# Altium footprint library ICs.PcbLib: 30 footprints (part 1 of 2)
Each footprint in its own frame and in the unit in brackets; x right, y up, seen from the top. Pads: shape width x height; smd on the part's side, far side on the other; paste and mask are expansions set on the pad; w line width, h text height; cw(c..) or ccw(c..) is an arc to the next point about the centre after c.
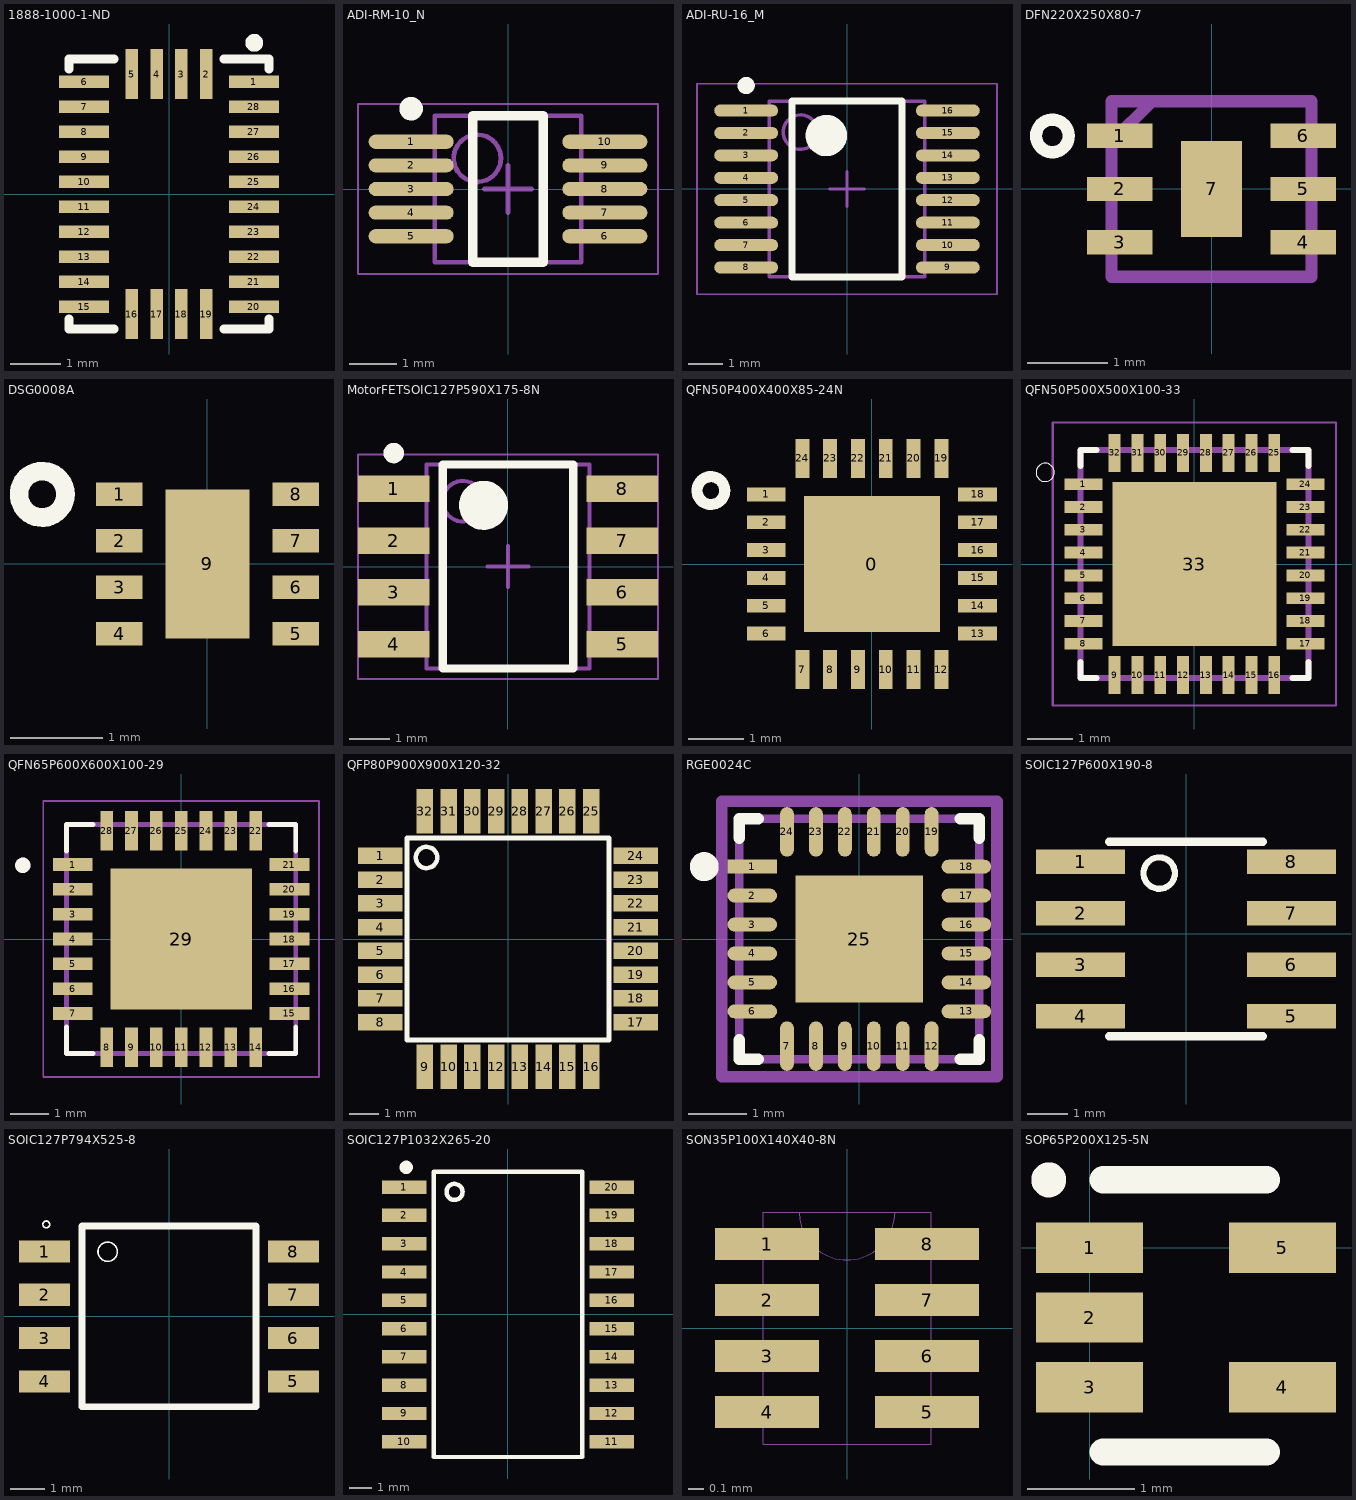
[diagram p0: the footprints below, top view; thin cyan lines are the x and y axes]

## 1888-1000-1-ND [mm]
height 1.2
pads (28):
  rect 1x0.25 smd: 1(1.7,2.25) 6(-1.7,2.25) 7(-1.7,1.75) 8(-1.7,1.25) 9(-1.7,0.75) 10(-1.7,0.25) 11(-1.7,-0.25) 12(-1.7,-0.75) 13(-1.7,-1.25) 14(-1.7,-1.75) 15(-1.7,-2.25) 20(1.7,-2.25) 21(1.7,-1.75) 22(1.7,-1.25) 23(1.7,-0.75) 24(1.7,-0.25) 25(1.7,0.25) 26(1.7,0.75) 27(1.7,1.25) 28(1.7,1.75)
  rect 0.25x1 smd: 2(0.75,2.4) 3(0.25,2.4) 4(-0.25,2.4) 5(-0.75,2.4) 16(-0.75,-2.4) 17(-0.25,-2.4) 18(0.25,-2.4) 19(0.75,-2.4)
Top Overlay:
  circle w0.203: c1.706,3.025 r0.076
  lines w0.178: -2,-2.5 -2,-2.7 -1.1,-2.7 ; -2,2.5 -2,2.7 -1.1,2.7 ; 1.1,-2.7 2,-2.7 2,-2.5 ; 1.1,2.7 2,2.7 2,2.5
Top Paste:
  region: -1.902,2.375 -1.2,2.375 -1.2,2.127 -1.902,2.127
  region: -1.901,1.375 -1.2,1.375 -1.2,1.126 -1.901,1.126
  region: -1.903,0.375 -1.2,0.375 -1.2,0.125 -1.903,0.125
  region: -1.904,-0.625 -1.2,-0.625 -1.2,-0.877 -1.904,-0.877
  region: -1.902,-1.625 -1.2,-1.625 -1.2,-1.877 -1.902,-1.877
  region: 0.623,-2.602 0.623,-1.902 0.877,-1.902 0.877,-2.602
  region: -0.377,-2.602 -0.377,-1.901 -0.124,-1.901 -0.124,-2.602
  region: 1.9,-2.379 1.202,-2.379 1.202,-2.125 1.9,-2.125
  region: 1.9,-1.375 1.2,-1.375 1.2,-1.125 1.9,-1.125
  region: 1.9,-0.375 1.201,-0.375 1.201,-0.125 1.9,-0.125
  region: 1.9,0.626 1.202,0.626 1.202,0.875 1.9,0.875
  region: 1.9,1.628 1.202,1.628 1.202,1.875 1.9,1.875
  region: 0.873,2.602 0.873,1.902 0.627,1.902 0.627,2.602
  region: -0.126,2.601 -0.126,1.9 -0.375,1.9 -0.375,2.601
  region: 0.374,2.601 0.374,1.9 0.125,1.9 0.125,2.601
  region: -0.625,2.6 -0.625,1.9 -0.875,1.9 -0.875,2.6
  region: -1.902,1.875 -1.2,1.875 -1.2,1.627 -1.902,1.627
  region: -1.902,0.875 -1.2,0.875 -1.2,0.626 -1.902,0.626
  region: -1.903,-0.125 -1.2,-0.125 -1.2,-0.376 -1.903,-0.376
  region: -1.902,-1.125 -1.2,-1.125 -1.2,-1.376 -1.902,-1.376
  region: -1.901,-2.125 -1.2,-2.125 -1.2,-2.377 -1.901,-2.377
  region: -0.876,-2.601 -0.876,-1.9 -0.625,-1.9 -0.625,-2.601
  region: 0.125,-2.6 0.125,-1.9 0.375,-1.9 0.375,-2.6
  region: 1.9,-1.876 1.201,-1.876 1.201,-1.625 1.9,-1.625
  region: 1.9,-0.875 1.2,-0.875 1.2,-0.625 1.9,-0.625
  region: 1.9,0.125 1.201,0.125 1.201,0.375 1.9,0.375
  region: 1.9,1.125 1.2,1.125 1.2,1.375 1.9,1.375
  region: 1.9,2.125 1.2,2.125 1.2,2.375 1.9,2.375

## ADI-RM-10_N [mm] "SOP, 10-Leads, Body 3x3mm, Pitch 0.5mm, IPC Medium Density"
height 1.1
pads (10):
  oval 1.8x0.3 smd: 1(-2.05,1) 2(-2.05,0.5) 3(-2.05,0) 4(-2.05,-0.5) 5(-2.05,-1) 6(2.05,-1) 7(2.05,-0.5) 8(2.05,0) 9(2.05,0.5) 10(2.05,1)
Top Overlay:
  circle w0.25: c-2.05,1.7 r0.125
  lines w0.2: -0.75,-1.55 -0.75,1.55 0.75,1.55 0.75,-1.55 -0.75,-1.55
Mechanical 13:
  circle w0.1: c-0.65,0.65 r0.5
  lines w0.1: -1.55,-1.55 -1.55,1.55 1.55,1.55 1.55,-1.55 -1.55,-1.55
Mechanical 15:
  lines w0.05: -3.175,-1.8 -3.175,1.8 3.175,1.8 3.175,-1.8 -3.175,-1.8
  lines w0.1: -0.5,0 0.5,0 ; 0,-0.5 0,0.5
3D body: height 1.1, standoff 0.05, extent -1.55,-1.55 1.55,1.55

## ADI-RU-16_M [mm] "SOP, 16-Leads, Body 5x4.4mm, Pitch 0.65mm, IPC Low Density"
height 1.2
pads (16):
  oval 1.85x0.35 smd: 1(-2.925,2.275) 2(-2.925,1.625) 3(-2.925,0.975) 4(-2.925,0.325) 5(-2.925,-0.325) 6(-2.925,-0.975) 7(-2.925,-1.625) 8(-2.925,-2.275) 9(2.925,-2.275) 10(2.925,-1.625) 11(2.925,-0.975) 12(2.925,-0.325) 13(2.925,0.325) 14(2.925,0.975) 15(2.925,1.625) 16(2.925,2.275)
Top Overlay:
  circle w0.25: c-2.925,3 r0.125
  circle w0.6: c-0.6,1.55 r0.3
  lines w0.2: -1.6,-2.55 -1.6,2.55 1.6,2.55 1.6,-2.55 -1.6,-2.55
Mechanical 13:
  circle w0.1: c-1.35,1.65 r0.5
  lines w0.1: -2.25,-2.55 -2.25,2.55 2.25,2.55 2.25,-2.55 -2.25,-2.55
Mechanical 15:
  lines w0.05: -4.35,-3.05 -4.35,3.05 4.35,3.05 4.35,-3.05 -4.35,-3.05
  lines w0.1: -0.5,0 0.5,0 ; 0,-0.5 0,0.5
3D body: height 1.2, standoff 0.05, extent -2.25,-2.55 2.25,2.55

## DFN220X250X80-7 [mil] "DFN + Body Width X Body Length X Height - #Pins"
height 31.5
pads (7):
  rect 32x12 smd: 1(-45,26) 2(-45,0) 3(-45,-26) 4(45,-26) 5(45,0) 6(45,26)
  rect 30x47 smd: 7(0,0)
Top Overlay:
  lines w0: -73.94,19.03 cw(c-77.64,26) -73.94,32.97
  lines w6: -86,26 ccw(c-78,26) -70,26 ccw(c-78,26) -86,26
Mechanical 1:
  lines w6: -49,23 -29,43 ; -49,-43 49,-43 49,43 -49,43 -49,-43
3D body "SDB06A.stp": height 24.09, standoff 0, extent -51.99,-45.5 54,45.52

## DSG0008A [mm]
height 0.8
pads (9):
  rect 0.5x0.25 smd: 1(-0.95,0.75) 2(-0.95,0.25) 3(-0.95,-0.25) 4(-0.95,-0.75) 5(0.95,-0.75) 6(0.95,-0.25) 7(0.95,0.25) 8(0.95,0.75)
  rect 0.9x1.6 smd: 9(0,0)
Top Overlay:
  circle w0.2: c-1.778,0.75 r0.25
Mechanical 15:
  lines w0.2: -0.279,0 0.25,0 ; 0,-0.254 0,0.246
3D body "DSG0008A.stp": height 0.77, standoff 0, extent -1,-1 1,1

## MotorFETSOIC127P590X175-8N [mm] "SOIC, 8-Leads, Body 4.90x3.90mm, Pitch 1.27mm, IPC Medium Density"
height 1.75
pads (8):
  rect 1.75x0.65 smd: 1(-2.8,1.905) 2(-2.8,0.635) 3(-2.8,-0.635) 4(-2.8,-1.905) 5(2.8,-1.905) 6(2.8,-0.635) 7(2.8,0.635) 8(2.8,1.905)
Top Overlay:
  circle w0.6: c-0.6,1.5 r0.3
  circle w0.25: c-2.8,2.78 r0.125
  lines w0.2: -1.6,-2.5 1.6,-2.5 1.6,2.5 -1.6,2.5 -1.6,-2.5
Mechanical 13:
  circle w0.1: c-1.1,1.6 r0.5
  lines w0.1: -2,-2.5 2,-2.5 2,2.5 -2,2.5 -2,-2.5
Mechanical 15:
  lines w0.05: -3.675,-2.75 3.675,-2.75 3.675,2.75 -3.675,2.75 -3.675,-2.75
  lines w0.1: -0.5,0 0.5,0 ; 0,-0.5 0,0.5
3D body "MotorFETSOIC127P590X175-8N.step": height 1.75, standoff 0, extent -2.975,-2.5 2.975,2.5

## QFN50P400X400X85-24N [mm] "24 Pin QFN 4x4 with exposed pad"
height 0.85
pads (25):
  rect 2.45x2.45 smd: 0(0,0)
  rect 0.7x0.25 smd: 1(-1.9,1.25) 2(-1.9,0.75) 3(-1.9,0.25) 4(-1.9,-0.25) 5(-1.9,-0.75) 6(-1.9,-1.25) 13(1.9,-1.25) 14(1.9,-0.75) 15(1.9,-0.25) 16(1.9,0.25) 17(1.9,0.75) 18(1.9,1.25)
  rect 0.25x0.7 smd: 7(-1.25,-1.9) 8(-0.75,-1.9) 9(-0.25,-1.9) 10(0.25,-1.9) 11(0.75,-1.9) 12(1.25,-1.9) 19(1.25,1.9) 20(0.75,1.9) 21(0.25,1.9) 22(-0.25,1.9) 23(-0.75,1.9) 24(-1.25,1.9)
Top Overlay:
  circle w0.2: c-2.896,1.321 r0.25
3D body: height 0.75, standoff 0, extent -2,-2 2,2
3D body: height 0.75, standoff 0, extent 0.025,-0.025 0.025,-0.025

## QFN50P500X500X100-33 [mm] "QFN + Pitch P + Body With X Body Length X Height - #Pins"
height 1
pads (33):
  rect 0.84x0.26 smd: 1(-2.435,1.75) 2(-2.435,1.25) 3(-2.435,0.75) 4(-2.435,0.25) 5(-2.435,-0.25) 6(-2.435,-0.75) 7(-2.435,-1.25) 8(-2.435,-1.75) 17(2.435,-1.75) 18(2.435,-1.25) 19(2.435,-0.75) 20(2.435,-0.25) 21(2.435,0.25) 22(2.435,0.75) 23(2.435,1.25) 24(2.435,1.75)
  rect 0.26x0.84 smd: 9(-1.75,-2.435) 10(-1.25,-2.435) 11(-0.75,-2.435) 12(-0.25,-2.435) 13(0.25,-2.435) 14(0.75,-2.435) 15(1.25,-2.435) 16(1.75,-2.435) 25(1.75,2.435) 26(1.25,2.435) 27(0.75,2.435) 28(0.25,2.435) 29(-0.25,2.435) 30(-0.75,2.435) 31(-1.25,2.435) 32(-1.75,2.435)
  rect 3.6x3.6 smd: 33(0,0)
Top Overlay:
  circle w0: c-3.275,2.01 r0.2
  lines w0.127: -2.5,-2.15 -2.5,-2.5 -2.15,-2.5 ; -2.5,2.15 -2.5,2.5 -2.15,2.5 ; 2.15,-2.5 2.5,-2.5 2.5,-2.15 ; 2.15,2.5 2.5,2.5 2.5,2.15
Top Paste:
  region: 0.23,1.57 1.57,1.57 1.57,0.23 0.23,0.23
  region: -1.572,1.57 -0.23,1.57 -0.23,0.23 -1.572,0.23
  region: -1.573,-0.23 -0.23,-0.23 -0.23,-1.573 -1.573,-1.573
  region: 0.23,-0.23 1.57,-0.23 1.57,-1.572 0.23,-1.572
Mechanical 1:
  circle w0: c-3.275,2.01 r0.2
  lines w0.05: -3.105,-3.105 3.105,-3.105 3.105,3.105 -3.105,3.105 -3.105,-3.105
  lines w0.127: -2.5,-2.5 2.5,-2.5 2.5,2.5 -2.5,2.5 -2.5,-2.5
3D body "CP_32_11.stp": height 0.78, standoff 0, extent -2.55,-2.55 2.55,2.55

## QFN65P600X600X100-29 [mm] "QFN + Pitch P + Body With X Body Length X Height - #Pins"
height 1
pads (29):
  rect 1.04x0.33 smd: 1(-2.835,1.95) 2(-2.835,1.3) 3(-2.835,0.65) 4(-2.835,0) 5(-2.835,-0.65) 6(-2.835,-1.3) 7(-2.835,-1.95) 15(2.835,-1.95) 16(2.835,-1.3) 17(2.835,-0.65) 18(2.835,0) 19(2.835,0.65) 20(2.835,1.3) 21(2.835,1.95)
  rect 0.33x1.04 smd: 8(-1.95,-2.835) 9(-1.3,-2.835) 10(-0.65,-2.835) 11(0,-2.835) 12(0.65,-2.835) 13(1.3,-2.835) 14(1.95,-2.835) 22(1.95,2.835) 23(1.3,2.835) 24(0.65,2.835) 25(0,2.835) 26(-0.65,2.835) 27(-1.3,2.835) 28(-1.95,2.835)
  rect 3.7x3.7 smd: 29(0,0)
Top Overlay:
  circle w0.2: c-4.145,1.93 r0.1
  lines w0.127: -3,-2.3 -3,-3 -2.3,-3 ; -3,2.3 -3,3 -2.3,3 ; 2.3,-3 3,-3 3,-2.3 ; 2.3,3 3,3 3,2.3
Top Paste:
  region: -1.616,1.17 1.17,1.17 1.17,-1.616 -1.616,-1.616
Mechanical 1:
  circle w0.2: c-4.145,1.93 r0.1
  lines w0.05: -3.61,-3.61 3.61,-3.61 3.61,3.61 -3.61,3.61 -3.61,-3.61
  lines w0.127: -3,-3 3,-3 3,3 -3,3 -3,-3
3D body "QFN65P600X600X100-29.step": height 1, standoff 0, extent -3.05,-3.05 3.05,3.05

## QFP80P900X900X120-32 [mm] "QFN + Pitch P + Body With X Body Length X Height - #Pins"
height 1
pads (32):
  rect 1.5x0.55 smd: 1(-4.3,2.8) 2(-4.3,2) 3(-4.3,1.2) 4(-4.3,0.4) 5(-4.3,-0.4) 6(-4.3,-1.2) 7(-4.3,-2) 8(-4.3,-2.8) 17(4.3,-2.8) 18(4.3,-2) 19(4.3,-1.2) 20(4.3,-0.4) 21(4.3,0.4) 22(4.3,1.2) 23(4.3,2) 24(4.3,2.8)
  rect 0.55x1.5 smd: 9(-2.8,-4.3) 10(-2,-4.3) 11(-1.2,-4.3) 12(-0.4,-4.3) 13(0.4,-4.3) 14(1.2,-4.3) 15(2,-4.3) 16(2.8,-4.3) 25(2.8,4.3) 26(2,4.3) 27(1.2,4.3) 28(0.4,4.3) 29(-0.4,4.3) 30(-1.2,4.3) 31(-2,4.3) 32(-2.8,4.3)
Top Overlay:
  circle w0.152: c-2.743,2.743 r0.359
  lines w0.152: -3.4,-3.4 -3.4,3.4 3.4,3.4 3.4,-3.4 -3.4,-3.4
3D body "32A.stp": height 1.2, standoff 0, extent -4.625,-4.625 4.625,4.625

## RGE0024C [mm]
pads (25):
  rect 0.857x0.239 smd paste+0 mask+0: 1(-1.851,1.25)
  oval 0.857x0.239 smd paste+0 mask+0: 2(-1.851,0.75) 3(-1.851,0.25) 4(-1.851,-0.25) 5(-1.851,-0.75) 6(-1.851,-1.25) 13(1.851,-1.25) 14(1.851,-0.75) 15(1.851,-0.25) 16(1.851,0.25) 17(1.851,0.75) 18(1.851,1.25)
  oval 0.239x0.857 smd paste+0 mask+0: 7(-1.25,-1.851) 8(-0.75,-1.851) 9(-0.25,-1.851) 10(0.25,-1.851) 11(0.75,-1.851) 12(1.25,-1.851) 19(1.25,1.851) 20(0.75,1.851) 21(0.25,1.851) 22(-0.25,1.851) 23(-0.75,1.851) 24(-1.25,1.851)
  rect 2.2x2.2 smd paste-1000 mask+0: 25(0,0)
Top Overlay:
  circle w0.25: c-2.679,1.25 r0.125
  lines w0.2: -2.075,-1.745 -2.075,-2.075 -1.745,-2.075 ; -2.075,1.745 -2.075,2.075 -1.745,2.075 ; 1.745,-2.075 2.075,-2.075 2.075,-1.745 ; 1.745,2.075 2.075,2.075 2.075,1.745
Top Paste:
  rectangle: -0.696,-0.696 0.696,0.696
Mechanical 10:
  lines w0.2: -2.379,-2.379 2.379,-2.379 2.379,2.379 -2.379,2.379 -2.379,-2.379
Mechanical 12:
  lines w0.15: -2.075,-2.075 2.075,-2.075 2.075,2.075 -2.075,2.075 -2.075,-2.075
Mechanical 15:
  lines w0.1: -0.5,0 0.5,0 ; 0,-0.5 0,0.5
  lines w0.2: -2.379,-2.379 2.379,-2.379 2.379,2.379 -2.379,2.379 -2.379,-2.379
3D body "IC_Texas_Instruments_TCA9548ARGER_eec.STEP": height 0.25, standoff 0, extent -2.379,-2.379 2.379,2.379

## SOIC127P600X190-8 [mm] "SOIC127P + Nominal Lead Length X Height - Pin #"
height 1.9
pads (8):
  rect 2.2x0.6 smd: 1(-2.6,1.778) 2(-2.6,0.508) 3(-2.6,-0.762) 4(-2.6,-2.032) 5(2.6,-2.032) 6(2.6,-0.762) 7(2.6,0.508) 8(2.6,1.778)
Top Overlay:
  circle w0.152: c-0.66,1.499 r0.388
  lines w0.203: -1.9,-2.527 -1.4,-2.527 1.9,-2.527 ; -1.9,2.273 -1.4,2.273 1.9,2.273
Mechanical 1:
  region: -2,2.03 -2,1.533 -3.11,1.533 -3.11,2.03
  region: -2,0.755 -2,0.263 -3.108,0.263 -3.108,0.755
  region: -2,-0.517 -2,-1.007 -3.103,-1.007 -3.103,-0.517
  region: -2,-1.789 -2,-2.277 -3.103,-2.277 -3.103,-1.789
  region: 3.1,-1.79 3.1,-2.277 2.004,-2.277 2.004,-1.79
  region: 3.1,-0.518 3.1,-1.007 2.005,-1.007 2.005,-0.518
  region: 3.1,0.755 3.1,0.263 2.004,0.263 2.004,0.755
  region: 3.1,2.025 3.1,1.533 2.002,1.533 2.002,2.025
3D body "SOIC127P500X600-8N.step": height 2.03, standoff 0, extent -2.682,-2.577 2.683,2.323

## SOIC127P794X525-8 [mm] "Footprint is named wrong, should be SOIC127P + Nominal Lead Length X Height - Pin #"
pads (8):
  rect 1.5x0.65 smd: 1(-3.65,1.905) 2(-3.65,0.635) 3(-3.65,-0.635) 4(-3.65,-1.905) 5(3.65,-1.905) 6(3.65,-0.635) 7(3.65,0.635) 8(3.65,1.905)
Top Overlay:
  circle w0.05: c-3.6,2.7 r0.1
  circle w0.05: c-1.8,1.9 r0.283
  lines w0.2: -2.55,-2.65 -2.55,2.65 2.55,2.65 2.55,-2.65 -2.55,-2.65

## SOIC127P1032X265-20 [mm] "SOIC127P + Nominal Lead Length X Height - Pin #"
height 2.65
pads (20):
  rect 2x0.6 smd: 1(-4.65,5.715) 2(-4.65,4.445) 3(-4.65,3.175) 4(-4.65,1.905) 5(-4.65,0.635) 6(-4.65,-0.635) 7(-4.65,-1.905) 8(-4.65,-3.175) 9(-4.65,-4.445) 10(-4.65,-5.715) 11(4.65,-5.715) 12(4.65,-4.445) 13(4.65,-3.175) 14(4.65,-1.905) 15(4.65,-0.635) 16(4.65,0.635) 17(4.65,1.905) 18(4.65,3.175) 19(4.65,4.445) 20(4.65,5.715)
Top Overlay:
  circle w0.2: c-2.4,5.5 r0.361
  circle w0.3: c-4.572,6.604 r0.15
  lines w0.2: -3.325,-6.4 3.325,-6.4 3.325,6.4 -3.325,6.4 -3.325,-6.4
3D body "21-0042B_20.stp": height 2.64, standoff 0, extent -5.321,-6.502 5.321,6.502

## SON35P100X140X40-8N [mil]
pads (8):
  rect 26x8 smd: 1(-20,21) 2(-20,7) 3(-20,-7) 4(-20,-21) 5(20,-21) 6(20,-7) 7(20,7) 8(20,21)
Mechanical 4:
  lines w0: -21,-29 21,-29 ; -21,-29 -21,29 ; -21,-29 21,-29 ; -21,-29 -21,29 ; -21,29 -12,29 ; -21,29 -12,29 ; -12,29 ccw(c0,29) 12,29 ; -12,29 ccw(c0,29) 12,29 ; -12,29 12,29 ; -12,29 12,29 ; 12,29 21,29 ; 12,29 21,29 ; 21,-29 21,29 ; 21,-29 21,29

## SOP65P200X125-5N [mm] "SOP + Pitch P + Lead Span Nominal X Height - #Pins"
height 1.25
pads (5):
  rect 1x0.47 smd: 1(0,0) 2(0,-0.65) 3(0,-1.3) 4(1.8,-1.3) 5(1.8,0)
Top Overlay:
  circle w0.254: c-0.381,0.635 r0.036
  lines w0.254: 0.127,-1.905 1.651,-1.905 ; 0.127,0.635 1.651,0.635
3D body: height 0.25, standoff 0, extent 1.016,1.016 1.016,1.016
3D body "KS_5.stp": height 1.7, standoff 0, extent -0.305,-1.74 2.083,0.47